# Altium integrated library WE-CBF_rev15a.intlib: 169 symbols (part 2 of 2)
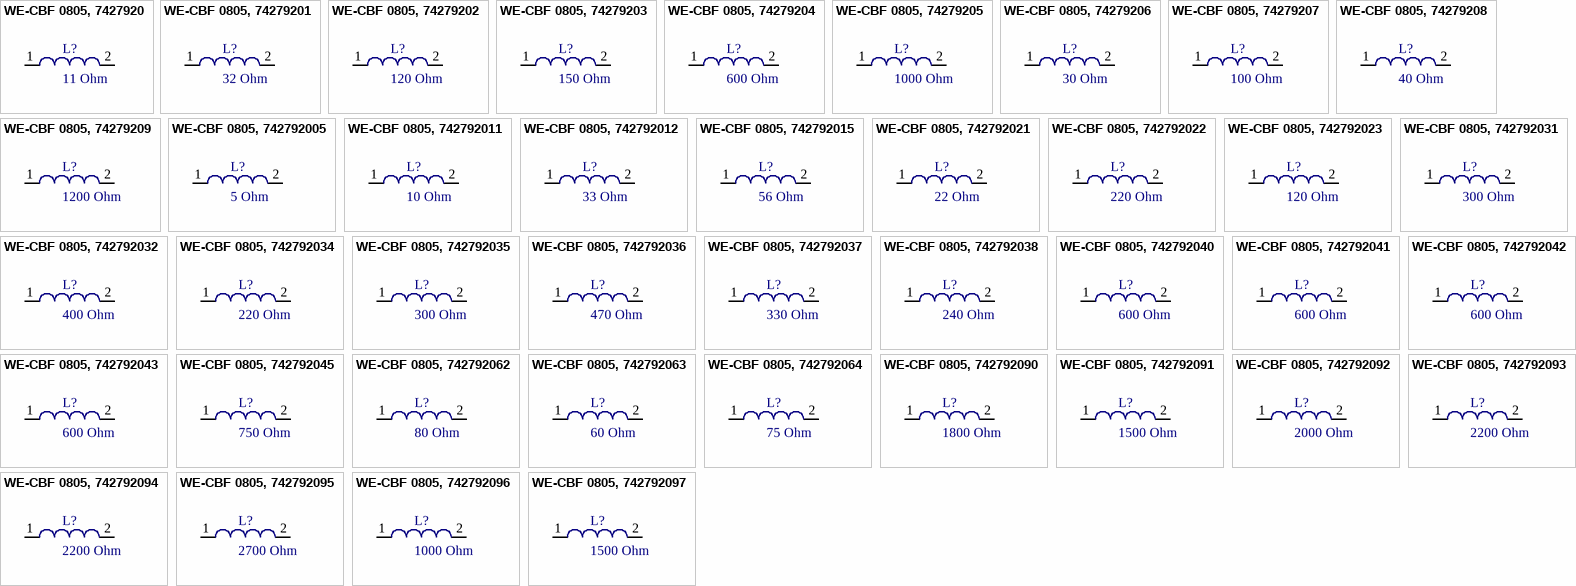
[diagram p10: symbols WE-CBF 0805, 7427920 to WE-CBF 0805, 742792097]

## WE-CBF 0805, 742792038
designator L?, comment 240 Ohm
SMD EMI Suppression Ferrite Beads WE-CBF, Z= 240 Ohm; partNo: 742792038; Manufacturer: Würth Elektronik eiSos GmbH; Impedance: 240 Ohm; ComponentLink1Description: Manufacturer; ComponentLink1URL: http://www.we-online.de; Created by: Christin Zierenner; Created Date: May 2009; ComponentLink2Description: Datasheet; ComponentLink2URL: http://www.we-online.de/katalog/media/pdf/742792038.pdf
footprint SMD 0805 (Chip Inductor, 2-Leads, Body 2,0x1,2mm)
pins: 1, 2

## WE-CBF 0805, 742792040
designator L?, comment 600 Ohm
SMD EMI Suppression Ferrite Beads WE-CBF, Z= 600 Ohm; partNo: 742792040; Manufacturer: Würth Elektronik eiSos GmbH; Impedance: 600 Ohm; ComponentLink1Description: Manufacturer; ComponentLink1URL: http://www.we-online.de; Created by: Christin Zierenner; Created Date: May 2009; ComponentLink2Description: Datasheet; ComponentLink2URL: http://www.we-online.de/katalog/media/pdf/742792040.pdf
footprint SMD 0805 (Chip Inductor, 2-Leads, Body 2,0x1,2mm)
pins: 1, 2

## WE-CBF 0805, 742792041
designator L?, comment 600 Ohm
SMD EMI Suppression Ferrite Beads WE-CBF, Z= 600 Ohm; partNo: 742792041; Manufacturer: Würth Elektronik eiSos GmbH; Impedance: 600 Ohm; ComponentLink1Description: Manufacturer; ComponentLink1URL: http://www.we-online.de; Created by: Christin Zierenner; Created Date: May 2009; ComponentLink2Description: Datasheet; ComponentLink2URL: http://www.we-online.de/katalog/media/pdf/742792041.pdf
footprint SMD 0805 (Chip Inductor, 2-Leads, Body 2,0x1,2mm)
pins: 1, 2

## WE-CBF 0805, 742792042
designator L?, comment 600 Ohm
SMD EMI Suppression Ferrite Beads WE-CBF, Z= 600 Ohm; partNo: 742792042; Manufacturer: Würth Elektronik eiSos GmbH; Impedance: 600 Ohm; ComponentLink1Description: Manufacturer; ComponentLink1URL: http://www.we-online.de; Created by: Christin Zierenner; Created Date: May 2009; ComponentLink2Description: Datasheet; ComponentLink2URL: http://www.we-online.de/katalog/media/pdf/742792042.pdf
footprint SMD 0805 (Chip Inductor, 2-Leads, Body 2,0x1,2mm)
pins: 1, 2

## WE-CBF 0805, 742792043
designator L?, comment 600 Ohm
SMD EMI Suppression Ferrite Beads WE-CBF, Z= 600 Ohm; partNo: 742792043; Manufacturer: Würth Elektronik eiSos GmbH; Impedance: 600 Ohm; ComponentLink1Description: Manufacturer; ComponentLink1URL: http://www.we-online.de; Created by: Christin Zierenner; Created Date: May 2009; ComponentLink2Description: Datasheet; ComponentLink2URL: http://www.we-online.de/katalog/media/pdf/742792043.pdf
footprint SMD 0805 (Chip Inductor, 2-Leads, Body 2,0x1,2mm)
pins: 1, 2

## WE-CBF 0805, 742792045
designator L?, comment 750 Ohm
SMD EMI Suppression Ferrite Beads WE-CBF, Z= 750 Ohm; partNo: 742792045; Manufacturer: Würth Elektronik eiSos GmbH; Impedance: 750 Ohm; ComponentLink1Description: Manufacturer; ComponentLink1URL: http://www.we-online.de; Created by: Christin Zierenner; Created Date: May 2009; ComponentLink2Description: Datasheet; ComponentLink2URL: http://www.we-online.de/katalog/media/pdf/742792045.pdf
footprint SMD 0805 (Chip Inductor, 2-Leads, Body 2,0x1,2mm)
pins: 1, 2

## WE-CBF 0805, 742792062
designator L?, comment 80 Ohm
SMD EMI Suppression Ferrite Beads WE-CBF, Z= 80 Ohm; partNo: 742792062; Manufacturer: Würth Elektronik eiSos GmbH; Impedance: 80 Ohm; ComponentLink1Description: Manufacturer; ComponentLink1URL: http://www.we-online.de; Created by: Christin Zierenner; Created Date: May 2009; ComponentLink2Description: Datasheet; ComponentLink2URL: http://www.we-online.de/katalog/media/pdf/742792062.pdf
footprint SMD 0805 (Chip Inductor, 2-Leads, Body 2,0x1,2mm)
pins: 1, 2

## WE-CBF 0805, 742792063
designator L?, comment 60 Ohm
SMD EMI Suppression Ferrite Beads WE-CBF, Z= 60 Ohm; partNo: 742792063; Manufacturer: Würth Elektronik eiSos GmbH; Impedance: 60 Ohm; ComponentLink1Description: Manufacturer; ComponentLink1URL: http://www.we-online.de; Created by: Christin Zierenner; Created Date: May 2009; ComponentLink2Description: Datasheet; ComponentLink2URL: http://www.we-online.de/katalog/media/pdf/742792063.pdf
footprint SMD 0805 (Chip Inductor, 2-Leads, Body 2,0x1,2mm)
pins: 1, 2

## WE-CBF 0805, 742792064
designator L?, comment 75 Ohm
SMD EMI Suppression Ferrite Beads WE-CBF, Z= 75 Ohm; partNo: 742792064; Manufacturer: Würth Elektronik eiSos GmbH; Impedance: 75 Ohm; ComponentLink1Description: Manufacturer; ComponentLink1URL: http://www.we-online.de; Created by: Christin Zierenner; Created Date: May 2009; ComponentLink2Description: Datasheet; ComponentLink2URL: http://www.we-online.de/katalog/media/pdf/742792064.pdf
footprint SMD 0805 (Chip Inductor, 2-Leads, Body 2,0x1,2mm)
pins: 1, 2

## WE-CBF 0805, 742792090
designator L?, comment 1800 Ohm
SMD EMI Suppression Ferrite Beads WE-CBF, Z= 1800 Ohm; partNo: 742792090; Manufacturer: Würth Elektronik eiSos GmbH; Impedance: 1800 Ohm; ComponentLink1Description: Manufacturer; ComponentLink1URL: http://www.we-online.de; Created by: Christin Zierenner; Created Date: May 2009; ComponentLink2Description: Datasheet; ComponentLink2URL: http://www.we-online.de/katalog/media/pdf/742792090.pdf
footprint SMD 0805 (Chip Inductor, 2-Leads, Body 2,0x1,2mm)
pins: 1, 2

## WE-CBF 0805, 742792091
designator L?, comment 1500 Ohm
SMD EMI Suppression Ferrite Beads WE-CBF, Z= 1500 Ohm; partNo: 742792091; Manufacturer: Würth Elektronik eiSos GmbH; Impedance: 1500 Ohm; ComponentLink1Description: Manufacturer; ComponentLink1URL: http://www.we-online.de; Created by: Christin Zierenner; Created Date: May 2009; ComponentLink2Description: Datasheet; ComponentLink2URL: http://www.we-online.de/katalog/media/pdf/742792091.pdf
footprint SMD 0805 (Chip Inductor, 2-Leads, Body 2,0x1,2mm)
pins: 1, 2

## WE-CBF 0805, 742792092
designator L?, comment 2000 Ohm
SMD EMI Suppression Ferrite Beads WE-CBF, Z= 2000 Ohm; partNo: 742792092; Manufacturer: Würth Elektronik eiSos GmbH; Impedance: 2000 Ohm; ComponentLink1Description: Manufacturer; ComponentLink1URL: http://www.we-online.de; Created by: Christin Zierenner; Created Date: May 2009; ComponentLink2Description: Datasheet; ComponentLink2URL: http://www.we-online.de/katalog/media/pdf/742792092.pdf
footprint SMD 0805 (Chip Inductor, 2-Leads, Body 2,0x1,2mm)
pins: 1, 2

## WE-CBF 0805, 742792093
designator L?, comment 2200 Ohm
SMD EMI Suppression Ferrite Beads WE-CBF, Z= 2200 Ohm; partNo: 742792093; Manufacturer: Würth Elektronik eiSos GmbH; Impedance: 2200 Ohm; ComponentLink1Description: Manufacturer; ComponentLink1URL: http://www.we-online.de; Created by: Christin Zierenner; Created Date: May 2009; ComponentLink2Description: Datasheet; ComponentLink2URL: http://www.we-online.de/katalog/media/pdf/742792093.pdf
footprint SMD 0805 (Chip Inductor, 2-Leads, Body 2,0x1,2mm)
pins: 1, 2

## WE-CBF 0805, 742792094
designator L?, comment 2200 Ohm
SMD EMI Suppression Ferrite Beads WE-CBF, Z= 2200 Ohm; partNo: 742792094; Manufacturer: Würth Elektronik eiSos GmbH; Impedance: 2200 Ohm; ComponentLink1Description: Manufacturer; ComponentLink1URL: http://www.we-online.de; Created by: Christin Zierenner; Created Date: May 2009; ComponentLink2Description: Datasheet; ComponentLink2URL: http://www.we-online.de/katalog/media/pdf/742792094.pdf
footprint SMD 0805 (Chip Inductor, 2-Leads, Body 2,0x1,2mm)
pins: 1, 2

## WE-CBF 0805, 742792095
designator L?, comment 2700 Ohm
SMD EMI Suppression Ferrite Beads WE-CBF, Z= 2700 Ohm; partNo: 742792095; Manufacturer: Würth Elektronik eiSos GmbH; Impedance: 2700 Ohm; ComponentLink1Description: Manufacturer; ComponentLink1URL: http://www.we-online.de; Created by: Christin Zierenner; Created Date: May 2009; ComponentLink2Description: Datasheet; ComponentLink2URL: http://www.we-online.de/katalog/media/pdf/742792095.pdf
footprint SMD 0805 (Chip Inductor, 2-Leads, Body 2,0x1,2mm)
pins: 1, 2

## WE-CBF 0805, 742792096
designator L?, comment 1000 Ohm
SMD EMI Suppression Ferrite Beads WE-CBF, Z= 1000 Ohm; partNo: 742792096; Manufacturer: Würth Elektronik eiSos GmbH; Impedance: 1000 Ohm; ComponentLink1Description: Manufacturer; ComponentLink1URL: http://www.we-online.de; Created by: Christin Zierenner; Created Date: May 2009; ComponentLink2Description: Datasheet; ComponentLink2URL: http://www.we-online.de/katalog/media/pdf/742792096.pdf
footprint SMD 0805 (Chip Inductor, 2-Leads, Body 2,0x1,2mm)
pins: 1, 2

## WE-CBF 0805, 742792097
designator L?, comment 1500 Ohm
SMD EMI Suppression Ferrite Beads WE-CBF, Z= 1500 Ohm; partNo: 742792097; Manufacturer: Würth Elektronik eiSos GmbH; Impedance: 1500 Ohm; ComponentLink1Description: Manufacturer; ComponentLink1URL: http://www.we-online.de; Created by: Christin Zierenner; Created Date: May 2009; ComponentLink2Description: Datasheet; ComponentLink2URL: http://www.we-online.de/katalog/media/pdf/742792097.pdf
footprint SMD 0805 (Chip Inductor, 2-Leads, Body 2,0x1,2mm)
pins: 1, 2

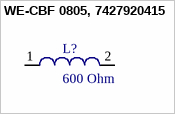
[diagram p3: symbol WE-CBF 0805, 7427920415]

## WE-CBF 0805, 7427920415
designator L?, comment 600 Ohm
SMD EMI Suppression Ferrite Beads WE-CBF, Z= 600 Ohm; partNo: 7427920415; Manufacturer: Würth Elektronik eiSos GmbH; Impedance: 600 Ohm; ComponentLink1Description: Manufacturer; ComponentLink1URL: http://www.we-online.de; Created by: Christin Zierenner; Created Date: May 2009; ComponentLink2Description: Datasheet; ComponentLink2URL: http://www.we-online.de/katalog/media/pdf/7427920415.pdf
footprint SMD 0805 (Chip Inductor, 2-Leads, Body 2,0x1,2mm,)
pins: 1, 2


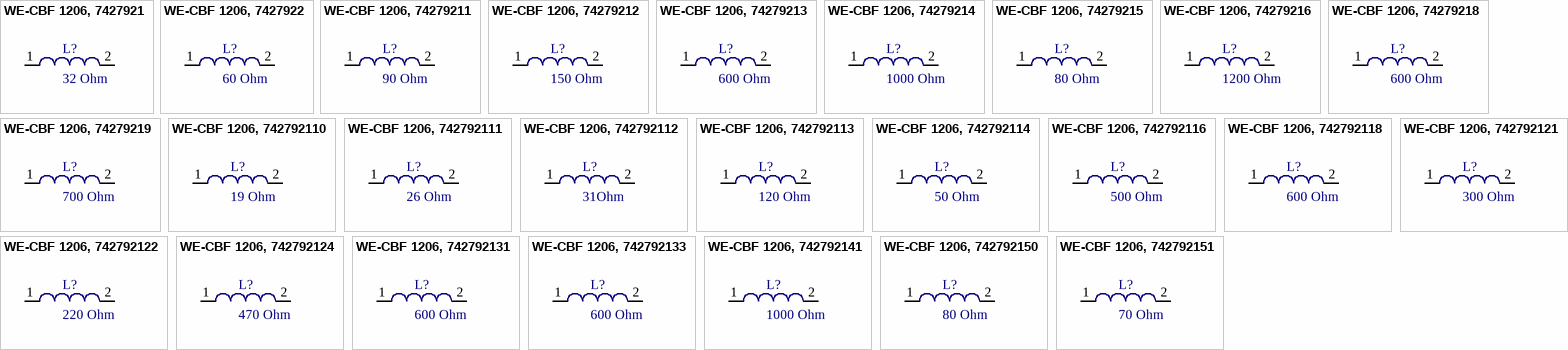
[diagram p4: symbols WE-CBF 1206, 7427921 to WE-CBF 1206, 742792151]

## WE-CBF 1206, 7427921
designator L?, comment 32 Ohm
SMD EMI Suppression Ferrite Beads WE-CBF, Z= 32 Ohm; partNo: 7427921; Manufacturer: Würth Elektronik eiSos GmbH; Impedance: 32 Ohm; ComponentLink1Description: Manufacturer; ComponentLink1URL: http://www.we-online.de; Created by: Christin Zierenner; Created Date: May 2009; ComponentLink2Description: Datasheet; ComponentLink2URL: http://www.we-online.de/katalog/media/pdf/7427921.pdf
footprint SMD 1206 (Chip Inductor, 2-Leads, Body 3,2x1,6mm)
pins: 1, 2

## WE-CBF 1206, 7427922
designator L?, comment 60 Ohm
SMD EMI Suppression Ferrite Beads WE-CBF, Z= 60 Ohm; partNo: 7427922; Manufacturer: Würth Elektronik eiSos GmbH; Impedance: 60 Ohm; ComponentLink1Description: Manufacturer; ComponentLink1URL: http://www.we-online.de; Created by: Christin Zierenner; Created Date: May 2009; ComponentLink2Description: Datasheet; ComponentLink2URL: http://www.we-online.de/katalog/media/pdf/7427922.pdf
footprint SMD 1206 (Chip Inductor, 2-Leads, Body 3,2x1,6mm)
pins: 1, 2

## WE-CBF 1206, 74279211
designator L?, comment 90 Ohm
SMD EMI Suppression Ferrite Beads WE-CBF, Z= 90 Ohm; partNo: 74279211; Manufacturer: Würth Elektronik eiSos GmbH; Impedance: 90 Ohm; ComponentLink1Description: Manufacturer; ComponentLink1URL: http://www.we-online.de; Created by: Christin Zierenner; Created Date: May 2009; ComponentLink2Description: Datasheet; ComponentLink2URL: http://www.we-online.de/katalog/media/pdf/74279211.pdf
footprint SMD 1206 (Chip Inductor, 2-Leads, Body 3,2x1,6mm)
pins: 1, 2

## WE-CBF 1206, 74279212
designator L?, comment 150 Ohm
SMD EMI Suppression Ferrite Beads WE-CBF, Z= 150 Ohm; partNo: 74279212; Manufacturer: Würth Elektronik eiSos GmbH; Impedance: 150 Ohm; ComponentLink1Description: Manufacturer; ComponentLink1URL: http://www.we-online.de; Created by: Christin Zierenner; Created Date: May 2009; ComponentLink2Description: Datasheet; ComponentLink2URL: http://www.we-online.de/katalog/media/pdf/74279212.pdf
footprint SMD 1206 (Chip Inductor, 2-Leads, Body 3,2x1,6mm)
pins: 1, 2

## WE-CBF 1206, 74279213
designator L?, comment 600 Ohm
SMD EMI Suppression Ferrite Beads WE-CBF, Z= 600 Ohm; partNo: 74279213; Manufacturer: Würth Elektronik eiSos GmbH; Impedance: 600 Ohm; ComponentLink1Description: Manufacturer; ComponentLink1URL: http://www.we-online.de; Created by: Christin Zierenner; Created Date: May 2009; ComponentLink2Description: Datasheet; ComponentLink2URL: http://www.we-online.de/katalog/media/pdf/74279213.pdf
footprint SMD 1206 (Chip Inductor, 2-Leads, Body 3,2x1,6mm)
pins: 1, 2

## WE-CBF 1206, 74279214
designator L?, comment 1000 Ohm
SMD EMI Suppression Ferrite Beads WE-CBF, Z= 1000 Ohm; partNo: 74279214; Manufacturer: Würth Elektronik eiSos GmbH; Impedance: 1000 Ohm; ComponentLink1Description: Manufacturer; ComponentLink1URL: http://www.we-online.de; Created by: Christin Zierenner; Created Date: May 2009; ComponentLink2Description: Datasheet; ComponentLink2URL: http://www.we-online.de/katalog/media/pdf/74279214.pdf
footprint SMD 1206 (Chip Inductor, 2-Leads, Body 3,2x1,6mm)
pins: 1, 2

## WE-CBF 1206, 74279215
designator L?, comment 80 Ohm
SMD EMI Suppression Ferrite Beads WE-CBF, Z= 80 Ohm; partNo: 74279215; Manufacturer: Würth Elektronik eiSos GmbH; Impedance: 80 Ohm; ComponentLink1Description: Manufacturer; ComponentLink1URL: http://www.we-online.de; Created by: Christin Zierenner; Created Date: May 2009; ComponentLink2Description: Datasheet; ComponentLink2URL: http://www.we-online.de/katalog/media/pdf/74279215.pdf
footprint SMD 1206 (Chip Inductor, 2-Leads, Body 3,2x1,6mm)
pins: 1, 2

## WE-CBF 1206, 74279216
designator L?, comment 1200 Ohm
SMD EMI Suppression Ferrite Beads WE-CBF, Z= 1200 Ohm; partNo: 74279216; Manufacturer: Würth Elektronik eiSos GmbH; Impedance: 1200 Ohm; ComponentLink1Description: Manufacturer; ComponentLink1URL: http://www.we-online.de; Created by: Christin Zierenner; Created Date: May 2009; ComponentLink2Description: Datasheet; ComponentLink2URL: http://www.we-online.de/katalog/media/pdf/74279216.pdf
footprint SMD 1206 (Chip Inductor, 2-Leads, Body 3,2x1,6mm)
pins: 1, 2

## WE-CBF 1206, 74279218
designator L?, comment 600 Ohm
SMD EMI Suppression Ferrite Beads WE-CBF, Z= 600 Ohm; partNo: 74279218; Manufacturer: Würth Elektronik eiSos GmbH; Impedance: 600 Ohm; ComponentLink1Description: Manufacturer; ComponentLink1URL: http://www.we-online.de; Created by: Christin Zierenner; Created Date: May 2009; ComponentLink2Description: Datasheet; ComponentLink2URL: http://www.we-online.de/katalog/media/pdf/74279218.pdf
footprint SMD 1206 (Chip Inductor, 2-Leads, Body 3,2x1,6mm)
pins: 1, 2

## WE-CBF 1206, 74279219
designator L?, comment 700 Ohm
SMD EMI Suppression Ferrite Beads WE-CBF, Z= 700 Ohm; partNo: 74279219; Manufacturer: Würth Elektronik eiSos GmbH; Impedance: 700 Ohm; ComponentLink1Description: Manufacturer; ComponentLink1URL: http://www.we-online.de; Created by: Christin Zierenner; Created Date: May 2009; ComponentLink2Description: Datasheet; ComponentLink2URL: http://www.we-online.de/katalog/media/pdf/74279219.pdf
footprint SMD 1206 (Chip Inductor, 2-Leads, Body 3,2x1,6mm)
pins: 1, 2

## WE-CBF 1206, 742792110
designator L?, comment 19 Ohm
SMD EMI Suppression Ferrite Beads WE-CBF, Z= 19 Ohm; partNo: 742792110; Manufacturer: Würth Elektronik eiSos GmbH; Impedance: 19 Ohm; ComponentLink1Description: Manufacturer; ComponentLink1URL: http://www.we-online.de; Created by: Christin Zierenner; Created Date: May 2009; ComponentLink2Description: Datasheet; ComponentLink2URL: http://www.we-online.de/katalog/media/pdf/742792110.pdf
footprint SMD 1206 (Chip Inductor, 2-Leads, Body 3,2x1,6mm)
pins: 1, 2

## WE-CBF 1206, 742792111
designator L?, comment 26 Ohm
SMD EMI Suppression Ferrite Beads WE-CBF, Z= 26 Ohm; partNo: 742792111; Manufacturer: Würth Elektronik eiSos GmbH; Impedance: 26 Ohm; ComponentLink1Description: Manufacturer; ComponentLink1URL: http://www.we-online.de; Created by: Christin Zierenner; Created Date: May 2009; ComponentLink2Description: Datasheet; ComponentLink2URL: http://www.we-online.de/katalog/media/pdf/742792111.pdf
footprint SMD 1206 (Chip Inductor, 2-Leads, Body 3,2x1,6mm)
pins: 1, 2

## WE-CBF 1206, 742792112
designator L?, comment 31Ohm
SMD EMI Suppression Ferrite Beads WE-CBF, Z= 31Ohm; partNo: 742792112; Manufacturer: Würth Elektronik eiSos GmbH; Impedance: 31Ohm; ComponentLink1Description: Manufacturer; ComponentLink1URL: http://www.we-online.de; Created by: Christin Zierenner; Created Date: May 2009; ComponentLink2Description: Datasheet; ComponentLink2URL: http://www.we-online.de/katalog/media/pdf/742792112.pdf
footprint SMD 1206 (Chip Inductor, 2-Leads, Body 3,2x1,6mm)
pins: 1, 2

## WE-CBF 1206, 742792113
designator L?, comment 120 Ohm
SMD EMI Suppression Ferrite Beads WE-CBF, Z= 120 Ohm; partNo: 742792113; Manufacturer: Würth Elektronik eiSos GmbH; Impedance: 120 Ohm; ComponentLink1Description: Manufacturer; ComponentLink1URL: http://www.we-online.de; Created by: Christin Zierenner; Created Date: May 2009; ComponentLink2Description: Datasheet; ComponentLink2URL: http://www.we-online.de/katalog/media/pdf/742792113.pdf
footprint SMD 1206 (Chip Inductor, 2-Leads, Body 3,2x1,6mm)
pins: 1, 2

## WE-CBF 1206, 742792114
designator L?, comment 50 Ohm
SMD EMI Suppression Ferrite Beads WE-CBF, Z= 50 Ohm; partNo: 742792114; Manufacturer: Würth Elektronik eiSos GmbH; Impedance: 50 Ohm; ComponentLink1Description: Manufacturer; ComponentLink1URL: http://www.we-online.de; Created by: Christin Zierenner; Created Date: May 2009; ComponentLink2Description: Datasheet; ComponentLink2URL: http://www.we-online.de/katalog/media/pdf/742792114.pdf
footprint SMD 1206 (Chip Inductor, 2-Leads, Body 3,2x1,6mm)
pins: 1, 2

## WE-CBF 1206, 742792116
designator L?, comment 500 Ohm
SMD EMI Suppression Ferrite Beads WE-CBF, Z= 500 Ohm; partNo: 742792116; Manufacturer: Würth Elektronik eiSos GmbH; Impedance: 500 Ohm; ComponentLink1Description: Manufacturer; ComponentLink1URL: http://www.we-online.de; Created by: Christin Zierenner; Created Date: May 2009; ComponentLink2Description: Datasheet; ComponentLink2URL: http://www.we-online.de/katalog/media/pdf/742792116.pdf
footprint SMD 1206 (Chip Inductor, 2-Leads, Body 3,2x1,6mm)
pins: 1, 2

## WE-CBF 1206, 742792118
designator L?, comment 600 Ohm
SMD EMI Suppression Ferrite Beads WE-CBF, Z= 600 Ohm; partNo: 742792118; Manufacturer: Würth Elektronik eiSos GmbH; Impedance: 600 Ohm; ComponentLink1Description: Manufacturer; ComponentLink1URL: http://www.we-online.de; Created by: Christin Zierenner; Created Date: June 2010; ComponentLink2Description: Datasheet; ComponentLink2URL: http://www.we-online.de/katalog/media/pdf/742792118.pdf
footprint SMD 1206 (Chip Inductor, 2-Leads, Body 3,2x1,6mm)
pins: 1, 2

## WE-CBF 1206, 742792121
designator L?, comment 300 Ohm
SMD EMI Suppression Ferrite Beads WE-CBF, Z= 300 Ohm; partNo: 742792121; Manufacturer: Würth Elektronik eiSos GmbH; Impedance: 300 Ohm; ComponentLink1Description: Manufacturer; ComponentLink1URL: http://www.we-online.de; Created by: Christin Zierenner; Created Date: May 2009; ComponentLink2Description: Datasheet; ComponentLink2URL: http://www.we-online.de/katalog/media/pdf/742792121.pdf
footprint SMD 1206 (Chip Inductor, 2-Leads, Body 3,2x1,6mm)
pins: 1, 2

## WE-CBF 1206, 742792122
designator L?, comment 220 Ohm
SMD EMI Suppression Ferrite Beads WE-CBF, Z= 220 Ohm; partNo: 742792122; Manufacturer: Würth Elektronik eiSos GmbH; Impedance: 220 Ohm; ComponentLink1Description: Manufacturer; ComponentLink1URL: http://www.we-online.de; Created by: Christin Zierenner; Created Date: May 2009; ComponentLink2Description: Datasheet; ComponentLink2URL: http://www.we-online.de/katalog/media/pdf/742792122.pdf
footprint SMD 1206 (Chip Inductor, 2-Leads, Body 3,2x1,6mm)
pins: 1, 2

## WE-CBF 1206, 742792124
designator L?, comment 470 Ohm
SMD EMI Suppression Ferrite Beads WE-CBF, Z= 470 Ohm; partNo: 742792124; Manufacturer: Würth Elektronik eiSos GmbH; Impedance: 470 Ohm; ComponentLink1Description: Manufacturer; ComponentLink1URL: http://www.we-online.de; Created by: Christin Zierenner; Created Date: May 2009; ComponentLink2Description: Datasheet; ComponentLink2URL: http://www.we-online.de/katalog/media/pdf/742792124.pdf
footprint SMD 1206 (Chip Inductor, 2-Leads, Body 3,2x1,6mm)
pins: 1, 2

## WE-CBF 1206, 742792131
designator L?, comment 600 Ohm
SMD EMI Suppression Ferrite Beads WE-CBF, Z= 600 Ohm; partNo: 742792131; Manufacturer: Würth Elektronik eiSos GmbH; Impedance: 600 Ohm; ComponentLink1Description: Manufacturer; ComponentLink1URL: http://www.we-online.de; Created by: Christin Zierenner; Created Date: May 2009; ComponentLink2Description: Datasheet; ComponentLink2URL: http://www.we-online.de/katalog/media/pdf/742792131.pdf
footprint SMD 1206 (Chip Inductor, 2-Leads, Body 3,2x1,6mm)
pins: 1, 2

## WE-CBF 1206, 742792133
designator L?, comment 600 Ohm
SMD EMI Suppression Ferrite Beads WE-CBF, Z= 600 Ohm; partNo: 742792133; Manufacturer: Würth Elektronik eiSos GmbH; Impedance: 600 Ohm; ComponentLink1Description: Manufacturer; ComponentLink1URL: http://www.we-online.de; Created by: Christin Zierenner; Created Date: May 2009; ComponentLink2Description: Datasheet; ComponentLink2URL: http://www.we-online.de/katalog/media/pdf/742792133.pdf
footprint SMD 1206 (Chip Inductor, 2-Leads, Body 3,2x1,6mm)
pins: 1, 2

## WE-CBF 1206, 742792141
designator L?, comment 1000 Ohm
SMD EMI Suppression Ferrite Beads WE-CBF, Z= 1000 Ohm; partNo: 742792141; Manufacturer: Würth Elektronik eiSos GmbH; Impedance: 1000 Ohm; ComponentLink1Description: Manufacturer; ComponentLink1URL: http://www.we-online.de; Created by: Christin Zierenner; Created Date: May 2009; ComponentLink2Description: Datasheet; ComponentLink2URL: http://www.we-online.de/katalog/media/pdf/742792141.pdf
footprint SMD 1206 (Chip Inductor, 2-Leads, Body 3,2x1,6mm)
pins: 1, 2

## WE-CBF 1206, 742792150
designator L?, comment 80 Ohm
SMD EMI Suppression Ferrite Beads WE-CBF, Z= 80 Ohm; partNo: 742792150; Manufacturer: Würth Elektronik eiSos GmbH; Impedance: 80 Ohm; ComponentLink1Description: Manufacturer; ComponentLink1URL: http://www.we-online.de; Created by: Christin Zierenner; Created Date: June 2010; ComponentLink2Description: Datasheet; ComponentLink2URL: http://www.we-online.de/katalog/media/pdf/742792150.pdf
footprint SMD 1206 (Chip Inductor, 2-Leads, Body 3,2x1,6mm)
pins: 1, 2

## WE-CBF 1206, 742792151
designator L?, comment 70 Ohm
SMD EMI Suppression Ferrite Beads WE-CBF, Z= 70 Ohm; partNo: 742792151; Manufacturer: Würth Elektronik eiSos GmbH; Impedance: 70 Ohm; ComponentLink1Description: Manufacturer; ComponentLink1URL: http://www.we-online.de; Created by: Christin Zierenner; Created Date: May 2009; ComponentLink2Description: Datasheet; ComponentLink2URL: http://www.we-online.de/katalog/media/pdf/742792151.pdf
footprint SMD 1206 (Chip Inductor, 2-Leads, Body 3,2x1,6mm)
pins: 1, 2


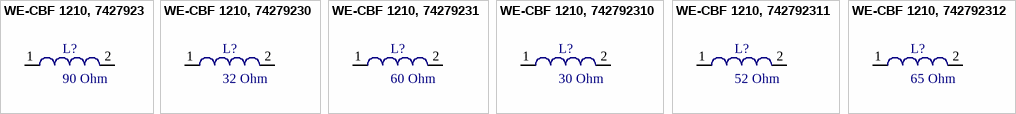
[diagram p5: symbols WE-CBF 1210, 7427923 to WE-CBF 1210, 742792312]

## WE-CBF 1210, 7427923
designator L?, comment 90 Ohm
SMD EMI Suppression Ferrite Beads WE-CBF, Z= 90 Ohm; partNo: 7427923; Manufacturer: Würth Elektronik eiSos GmbH; Impedance: 90 Ohm; ComponentLink1Description: Manufacturer; ComponentLink1URL: http://www.we-online.de; Created by: Christin Zierenner; Created Date: May 2009; ComponentLink2Description: Datasheet; ComponentLink2URL: http://www.we-online.de/katalog/media/pdf/7427923.pdf
footprint SMD 1210 (Chip Inductor, 2-Leads, Body 3,2x2,5mm)
pins: 1, 2

## WE-CBF 1210, 74279230
designator L?, comment 32 Ohm
SMD EMI Suppression Ferrite Beads WE-CBF, Z= 32 Ohm; partNo: 74279230; Manufacturer: Würth Elektronik eiSos GmbH; Impedance: 32 Ohm; ComponentLink1Description: Manufacturer; ComponentLink1URL: http://www.we-online.de; Created by: Christin Zierenner; Created Date: May 2009; ComponentLink2Description: Datasheet; ComponentLink2URL: http://www.we-online.de/katalog/media/pdf/74279230.pdf
footprint SMD 1210 (Chip Inductor, 2-Leads, Body 3,2x2,5mm)
pins: 1, 2

## WE-CBF 1210, 74279231
designator L?, comment 60 Ohm
SMD EMI Suppression Ferrite Beads WE-CBF, Z= 60 Ohm; partNo: 74279231; Manufacturer: Würth Elektronik eiSos GmbH; Impedance: 60 Ohm; ComponentLink1Description: Manufacturer; ComponentLink1URL: http://www.we-online.de; Created by: Christin Zierenner; Created Date: May 2009; ComponentLink2Description: Datasheet; ComponentLink2URL: http://www.we-online.de/katalog/media/pdf/74279231.pdf
footprint SMD 1210 (Chip Inductor, 2-Leads, Body 3,2x2,5mm)
pins: 1, 2

## WE-CBF 1210, 742792310
designator L?, comment 30 Ohm
SMD EMI Suppression Ferrite Beads WE-CBF, Z= 30 Ohm; partNo: 742792310; Manufacturer: Würth Elektronik eiSos GmbH; Impedance: 30 Ohm; ComponentLink1Description: Manufacturer; ComponentLink1URL: http://www.we-online.de; Created by: Christin Zierenner; Created Date: May 2009; ComponentLink2Description: Datasheet; ComponentLink2URL: http://www.we-online.de/katalog/media/pdf/742792310.pdf
footprint SMD 1210 (Chip Inductor, 2-Leads, Body 3,2x2,5mm)
pins: 1, 2

## WE-CBF 1210, 742792311
designator L?, comment 52 Ohm
SMD EMI Suppression Ferrite Beads WE-CBF, Z= 52 Ohm; partNo: 742792311; Manufacturer: Würth Elektronik eiSos GmbH; Impedance: 52 Ohm; ComponentLink1Description: Manufacturer; ComponentLink1URL: http://www.we-online.de; Created by: Christin Zierenner; Created Date: May 2009; ComponentLink2Description: Datasheet; ComponentLink2URL: http://www.we-online.de/katalog/media/pdf/742792311.pdf
footprint SMD 1210 (Chip Inductor, 2-Leads, Body 3,2x2,5mm)
pins: 1, 2

## WE-CBF 1210, 742792312
designator L?, comment 65 Ohm
SMD EMI Suppression Ferrite Beads WE-CBF, Z= 65 Ohm; partNo: 742792312; Manufacturer: Würth Elektronik eiSos GmbH; Impedance: 65 Ohm; ComponentLink1Description: Manufacturer; ComponentLink1URL: http://www.we-online.de; Created by: Christin Zierenner; Created Date: May 2009; ComponentLink2Description: Datasheet; ComponentLink2URL: http://www.we-online.de/katalog/media/pdf/742792312.pdf
footprint SMD 1210 (Chip Inductor, 2-Leads, Body 3,2x2,5mm)
pins: 1, 2


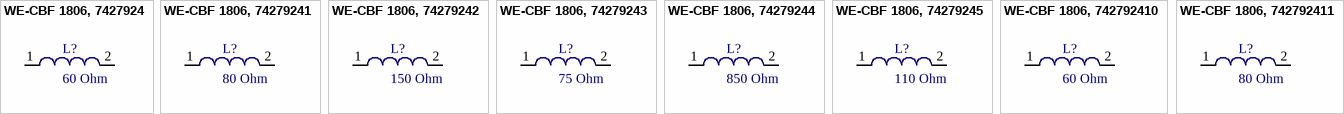
[diagram p6: symbols WE-CBF 1806, 7427924 to WE-CBF 1806, 742792411]

## WE-CBF 1806, 7427924
designator L?, comment 60 Ohm
SMD EMI Suppression Ferrite Beads WE-CBF, Z= 60 Ohm; partNo: 7427924; Manufacturer: Würth Elektronik eiSos GmbH; Impedance: 60 Ohm; ComponentLink1Description: Manufacturer; ComponentLink1URL: http://www.we-online.de; Created by: Christin Zierenner; Created Date: May 2009; ComponentLink2Description: Datasheet; ComponentLink2URL: http://www.we-online.de/katalog/media/pdf/7427924.pdf
footprint SMD 1806 (Chip Inductor, 2-Leads, Body 4,5x1,6mm)
pins: 1, 2

## WE-CBF 1806, 74279241
designator L?, comment 80 Ohm
SMD EMI Suppression Ferrite Beads WE-CBF, Z= 80 Ohm; partNo: 74279241; Manufacturer: Würth Elektronik eiSos GmbH; Impedance: 80 Ohm; ComponentLink1Description: Manufacturer; ComponentLink1URL: http://www.we-online.de; Created by: Christin Zierenner; Created Date: May 2009; ComponentLink2Description: Datasheet; ComponentLink2URL: http://www.we-online.de/katalog/media/pdf/74279241.pdf
footprint SMD 1806 (Chip Inductor, 2-Leads, Body 4,5x1,6mm)
pins: 1, 2

## WE-CBF 1806, 74279242
designator L?, comment 150 Ohm
SMD EMI Suppression Ferrite Beads WE-CBF, Z= 150 Ohm; partNo: 74279242; Manufacturer: Würth Elektronik eiSos GmbH; Impedance: 150 Ohm; ComponentLink1Description: Manufacturer; ComponentLink1URL: http://www.we-online.de; Created by: Christin Zierenner; Created Date: May 2009; ComponentLink2Description: Datasheet; ComponentLink2URL: http://www.we-online.de/katalog/media/pdf/74279242.pdf
footprint SMD 1806 (Chip Inductor, 2-Leads, Body 4,5x1,6mm)
pins: 1, 2

## WE-CBF 1806, 74279243
designator L?, comment 75 Ohm
SMD EMI Suppression Ferrite Beads WE-CBF, Z= 75 Ohm; partNo: 74279243; Manufacturer: Würth Elektronik eiSos GmbH; Impedance: 75 Ohm; ComponentLink1Description: Manufacturer; ComponentLink1URL: http://www.we-online.de; Created by: Christin Zierenner; Created Date: May 2009; ComponentLink2Description: Datasheet; ComponentLink2URL: http://www.we-online.de/katalog/media/pdf/74279243.pdf
footprint SMD 1806 (Chip Inductor, 2-Leads, Body 4,5x1,6mm)
pins: 1, 2

## WE-CBF 1806, 74279244
designator L?, comment 850 Ohm
SMD EMI Suppression Ferrite Beads WE-CBF, Z= 850 Ohm; partNo: 74279244; Manufacturer: Würth Elektronik eiSos GmbH; Impedance: 850 Ohm; ComponentLink1Description: Manufacturer; ComponentLink1URL: http://www.we-online.de; Created by: Christin Zierenner; Created Date: May 2009; ComponentLink2Description: Datasheet; ComponentLink2URL: http://www.we-online.de/katalog/media/pdf/74279244.pdf
footprint SMD 1806 (Chip Inductor, 2-Leads, Body 4,5x1,6mm)
pins: 1, 2

## WE-CBF 1806, 74279245
designator L?, comment 110 Ohm
SMD EMI Suppression Ferrite Beads WE-CBF, Z= 110 Ohm; partNo: 74279245; Manufacturer: Würth Elektronik eiSos GmbH; Impedance: 110 Ohm; ComponentLink1Description: Manufacturer; ComponentLink1URL: http://www.we-online.de; Created by: Christin Zierenner; Created Date: May 2009; ComponentLink2Description: Datasheet; ComponentLink2URL: http://www.we-online.de/katalog/media/pdf/74279245.pdf
footprint SMD 1806 (Chip Inductor, 2-Leads, Body 4,5x1,6mm)
pins: 1, 2

## WE-CBF 1806, 742792410
designator L?, comment 60 Ohm
SMD EMI Suppression Ferrite Beads WE-CBF, Z= 60 Ohm; partNo: 742792410; Manufacturer: Würth Elektronik eiSos GmbH; Impedance: 60 Ohm; ComponentLink1Description: Manufacturer; ComponentLink1URL: http://www.we-online.de; Created by: Christin Zierenner; Created Date: May 2009; ComponentLink2Description: Datasheet; ComponentLink2URL: http://www.we-online.de/katalog/media/pdf/742792410.pdf
footprint SMD 1806 (Chip Inductor, 2-Leads, Body 4,5x1,6mm)
pins: 1, 2

## WE-CBF 1806, 742792411
designator L?, comment 80 Ohm
SMD EMI Suppression Ferrite Beads WE-CBF, Z= 80 Ohm; partNo: 742792411; Manufacturer: Würth Elektronik eiSos GmbH; Impedance: 80 Ohm; ComponentLink1Description: Manufacturer; ComponentLink1URL: http://www.we-online.de; Created by: Christin Zierenner; Created Date: May 2009; ComponentLink2Description: Datasheet; ComponentLink2URL: http://www.we-online.de/katalog/media/pdf/742792411.pdf
footprint SMD 1806 (Chip Inductor, 2-Leads, Body 4,5x1,6mm)
pins: 1, 2


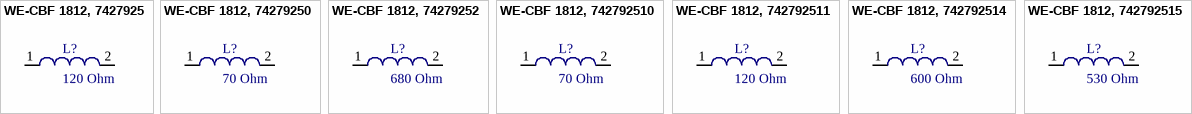
[diagram p7: symbols WE-CBF 1812, 7427925 to WE-CBF 1812, 742792515]

## WE-CBF 1812, 7427925
designator L?, comment 120 Ohm
SMD EMI Suppression Ferrite Beads WE-CBF, Z= 120 Ohm; partNo: 7427925; Manufacturer: Würth Elektronik eiSos GmbH; Impedance: 120 Ohm; ComponentLink1Description: Manufacturer; ComponentLink1URL: http://www.we-online.de; Created by: Christin Zierenner; Created Date: May 2009; ComponentLink2Description: Datasheet; ComponentLink2URL: http://www.we-online.de/katalog/media/pdf/7427925.pdf
footprint SMD 1812 (Chip Inductor, 2-Leads, Body 4,5x3,2mm)
pins: 1, 2

## WE-CBF 1812, 74279250
designator L?, comment 70 Ohm
SMD EMI Suppression Ferrite Beads WE-CBF, Z= 70 Ohm; partNo: 74279250; Manufacturer: Würth Elektronik eiSos GmbH; Impedance: 70 Ohm; ComponentLink1Description: Manufacturer; ComponentLink1URL: http://www.we-online.de; Created by: Christin Zierenner; Created Date: May 2009; ComponentLink2Description: Datasheet; ComponentLink2URL: http://www.we-online.de/katalog/media/pdf/74279250.pdf
footprint SMD 1812 (Chip Inductor, 2-Leads, Body 4,5x3,2mm)
pins: 1, 2

## WE-CBF 1812, 74279252
designator L?, comment 680 Ohm
SMD EMI Suppression Ferrite Beads WE-CBF, Z= 680 Ohm; partNo: 74279252; Manufacturer: Würth Elektronik eiSos GmbH; Impedance: 680 Ohm; ComponentLink1Description: Manufacturer; ComponentLink1URL: http://www.we-online.de; Created by: Christin Zierenner; Created Date: May 2009; ComponentLink2Description: Datasheet; ComponentLink2URL: http://www.we-online.de/katalog/media/pdf/74279252.pdf
footprint SMD 1812 (Chip Inductor, 2-Leads, Body 4,5x3,2mm)
pins: 1, 2

## WE-CBF 1812, 742792510
designator L?, comment 70 Ohm
SMD EMI Suppression Ferrite Beads WE-CBF, Z= 70 Ohm; partNo: 742792510; Manufacturer: Würth Elektronik eiSos GmbH; Impedance: 70 Ohm; ComponentLink1Description: Manufacturer; ComponentLink1URL: http://www.we-online.de; Created by: Christin Zierenner; Created Date: May 2009; ComponentLink2Description: Datasheet; ComponentLink2URL: http://www.we-online.de/katalog/media/pdf/742792510.pdf
footprint SMD 1812 (Chip Inductor, 2-Leads, Body 4,5x3,2mm)
pins: 1, 2

## WE-CBF 1812, 742792511
designator L?, comment 120 Ohm
SMD EMI Suppression Ferrite Beads WE-CBF, Z= 120 Ohm; partNo: 742792511; Manufacturer: Würth Elektronik eiSos GmbH; Impedance: 120 Ohm; ComponentLink1Description: Manufacturer; ComponentLink1URL: http://www.we-online.de; Created by: Christin Zierenner; Created Date: May 2009; ComponentLink2Description: Datasheet; ComponentLink2URL: http://www.we-online.de/katalog/media/pdf/742792511.pdf
footprint SMD 1812 (Chip Inductor, 2-Leads, Body 4,5x3,2mm)
pins: 1, 2

## WE-CBF 1812, 742792514
designator L?, comment 600 Ohm
SMD EMI Suppression Ferrite Beads WE-CBF, Z= 600 Ohm; partNo: 742792514; Manufacturer: Würth Elektronik eiSos GmbH; Impedance: 600 Ohm; ComponentLink1Description: Manufacturer; ComponentLink1URL: http://www.we-online.de; Created by: Christin Zierenner; Created Date: May 2009; ComponentLink2Description: Datasheet; ComponentLink2URL: http://www.we-online.de/katalog/media/pdf/742792514.pdf
footprint SMD 1812 (Chip Inductor, 2-Leads, Body 4,5x3,2mm)
pins: 1, 2

## WE-CBF 1812, 742792515
designator L?, comment 530 Ohm
SMD EMI Suppression Ferrite Beads WE-CBF, Z= 530 Ohm; partNo: 742792515; Manufacturer: Würth Elektronik eiSos GmbH; Impedance: 530 Ohm; ComponentLink1Description: Manufacturer; ComponentLink1URL: http://www.we-online.de; Created by: Christin Zierenner; Created Date: May 2009; ComponentLink2Description: Datasheet; ComponentLink2URL: http://www.we-online.de/katalog/media/pdf/742792515.pdf
footprint SMD 1812 (Chip Inductor, 2-Leads, Body 4,5x3,2mm)
pins: 1, 2


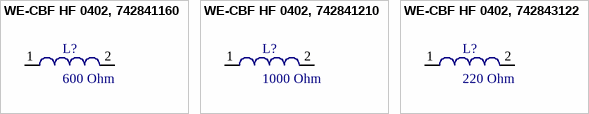
[diagram p8: symbols WE-CBF HF 0402, 742841160 to WE-CBF HF 0402, 742843122]

## WE-CBF HF 0402, 742841160
designator L?, comment 600 Ohm
SMD EMI Suppression Ferrite Beads WE-CBF HF, Z= 600 Ohm; partNo: 742841160; Manufacturer: Würth Elektronik eiSos GmbH; Impedance: 600 Ohm; ComponentLink1Description: Manufacturer; ComponentLink1URL: http://www.we-online.de; Created by: Christin Zierenner; Created Date: May 2009; ComponentLink2Description: Datasheet; ComponentLink2URL: http://www.we-online.de/katalog/media/pdf/742841160.pdf
footprint SMD 0402 (Chip Inductor, 2-Leads, Body 1,0x0,5mm)
pins: 1, 2

## WE-CBF HF 0402, 742841210
designator L?, comment 1000 Ohm
SMD EMI Suppression Ferrite Beads WE-CBF HF, Z= 1000 Ohm; partNo: 742841210; Manufacturer: Würth Elektronik eiSos GmbH; Impedance: 1000 Ohm; ComponentLink1Description: Manufacturer; ComponentLink1URL: http://www.we-online.de; Created by: Christin Zierenner; Created Date: May 2009; ComponentLink2Description: Datasheet; ComponentLink2URL: http://www.we-online.de/katalog/media/pdf/742841210.pdf
footprint SMD 0402 (Chip Inductor, 2-Leads, Body 1,0x0,5mm)
pins: 1, 2

## WE-CBF HF 0402, 742843122
designator L?, comment 220 Ohm
SMD EMI Suppression Ferrite Beads WE-CBF HF, Z= 220 Ohm; partNo: 742843122; Manufacturer: Würth Elektronik eiSos GmbH; Impedance: 220 Ohm; ComponentLink1Description: Manufacturer; ComponentLink1URL: http://www.we-online.de; Created by: Christin Zierenner; Created Date: May 2009; ComponentLink2Description: Datasheet; ComponentLink2URL: http://www.we-online.de/katalog/media/pdf/742843122.pdf
footprint SMD 0402 (Chip Inductor, 2-Leads, Body 1,0x0,5mm)
pins: 1, 2


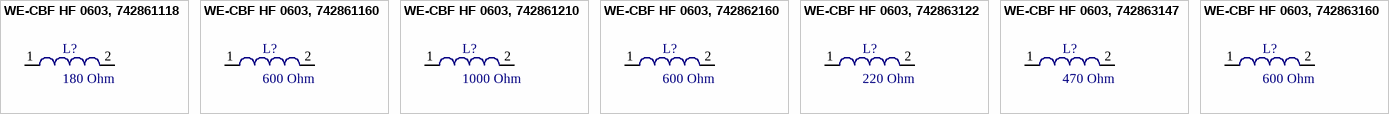
[diagram p9: symbols WE-CBF HF 0603, 742861118 to WE-CBF HF 0603, 742863160]

## WE-CBF HF 0603, 742861118
designator L?, comment 180 Ohm
SMD EMI Suppression Ferrite Beads WE-CBF HF, Z= 180 Ohm; partNo: 742861118; Manufacturer: Würth Elektronik eiSos GmbH; Impedance: 180 Ohm; ComponentLink1Description: Manufacturer; ComponentLink1URL: http://www.we-online.de; Created by: Christin Zierenner; Created Date: May 2009; ComponentLink2Description: Datasheet; ComponentLink2URL: http://www.we-online.de/katalog/media/pdf/742861118.pdf
footprint SMD 0603 (Chip Inductor, 2-Leads, Body 1,6x0,8mm)
pins: 1, 2

## WE-CBF HF 0603, 742861160
designator L?, comment 600 Ohm
SMD EMI Suppression Ferrite Beads WE-CBF HF, Z= 600 Ohm; partNo: 742861160; Manufacturer: Würth Elektronik eiSos GmbH; Impedance: 600 Ohm; ComponentLink1Description: Manufacturer; ComponentLink1URL: http://www.we-online.de; Created by: Christin Zierenner; Created Date: May 2009; ComponentLink2Description: Datasheet; ComponentLink2URL: http://www.we-online.de/katalog/media/pdf/742861160.pdf
footprint SMD 0603 (Chip Inductor, 2-Leads, Body 1,6x0,8mm)
pins: 1, 2

## WE-CBF HF 0603, 742861210
designator L?, comment 1000 Ohm
SMD EMI Suppression Ferrite Beads WE-CBF HF, Z= 1000 Ohm; partNo: 742861210; Manufacturer: Würth Elektronik eiSos GmbH; Impedance: 1000 Ohm; ComponentLink1Description: Manufacturer; ComponentLink1URL: http://www.we-online.de; Created by: Christin Zierenner; Created Date: May 2009; ComponentLink2Description: Datasheet; ComponentLink2URL: http://www.we-online.de/katalog/media/pdf/742861210.pdf
footprint SMD 0603 (Chip Inductor, 2-Leads, Body 1,6x0,8mm)
pins: 1, 2

## WE-CBF HF 0603, 742862160
designator L?, comment 600 Ohm
SMD EMI Suppression Ferrite Beads WE-CBF HF, Z= 600 Ohm; partNo: 742862160; Manufacturer: Würth Elektronik eiSos GmbH; Impedance: 600 Ohm; ComponentLink1Description: Manufacturer; ComponentLink1URL: http://www.we-online.de; Created by: Christin Zierenner; Created Date: May 2009; ComponentLink2Description: Datasheet; ComponentLink2URL: http://www.we-online.de/katalog/media/pdf/742862160.pdf
footprint SMD 0603 (Chip Inductor, 2-Leads, Body 1,6x0,8mm)
pins: 1, 2

## WE-CBF HF 0603, 742863122
designator L?, comment 220 Ohm
SMD EMI Suppression Ferrite Beads WE-CBF HF, Z= 220 Ohm; partNo: 742863122; Manufacturer: Würth Elektronik eiSos GmbH; Impedance: 220 Ohm; ComponentLink1Description: Manufacturer; ComponentLink1URL: http://www.we-online.de; Created by: Christin Zierenner; Created Date: May 2009; ComponentLink2Description: Datasheet; ComponentLink2URL: http://www.we-online.de/katalog/media/pdf/742863122.pdf
footprint SMD 0603 (Chip Inductor, 2-Leads, Body 1,6x0,8mm)
pins: 1, 2

## WE-CBF HF 0603, 742863147
designator L?, comment 470 Ohm
SMD EMI Suppression Ferrite Beads WE-CBF HF, Z= 470 Ohm; partNo: 742863147; Manufacturer: Würth Elektronik eiSos GmbH; Impedance: 470 Ohm; ComponentLink1Description: Manufacturer; ComponentLink1URL: http://www.we-online.de; Created by: Christin Zierenner; Created Date: May 2009; ComponentLink2Description: Datasheet; ComponentLink2URL: http://www.we-online.de/katalog/media/pdf/742863147.pdf
footprint SMD 0603 (Chip Inductor, 2-Leads, Body 1,6x0,8mm)
pins: 1, 2

## WE-CBF HF 0603, 742863160
designator L?, comment 600 Ohm
SMD EMI Suppression Ferrite Beads WE-CBF HF, Z= 600 Ohm; partNo: 742863160; Manufacturer: Würth Elektronik eiSos GmbH; Impedance: 600 Ohm; ComponentLink1Description: Manufacturer; ComponentLink1URL: http://www.we-online.de; Created by: Christin Zierenner; Created Date: May 2009; ComponentLink2Description: Datasheet; ComponentLink2URL: http://www.we-online.de/katalog/media/pdf/742863160.pdf
footprint SMD 0603 (Chip Inductor, 2-Leads, Body 1,6x0,8mm)
pins: 1, 2